# EAGLE library part AD849 (library LINEAR)
Analog Devices AD849X Precision Thermocouple Amplifiers with Cold Junction Compensation Changes: - 09/19/12 - Moved from Transceiver library. Standardized labels. Package on MM grid. -CN
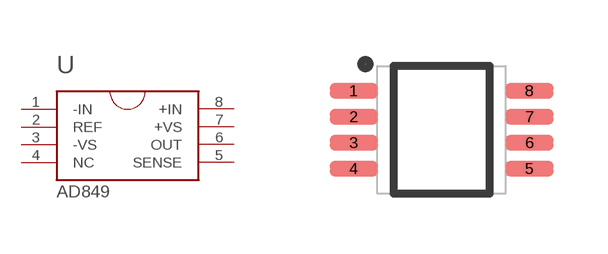
[diagram p1: symbol with the pads of MSOP08; footprint MSOP08]

Designator prefix U

## AD8494ARMZ, AD8494CRMZ, AD8495ARMZ (PARTNO: 01-100438-00), AD8495CRMZ, AD8496ARMZ, AD8496CRMZ, AD8497ARMZ, AD8497CRMZ  [MSOP08]
1  -IN  in
2  REF  in
3  -VS  pwr
4  NC  nc
5  SENSE  in
6  OUT  out
7  +VS  pwr
8  +IN  in

## Footprint MSOP08 (pad centres in mm)
8-Lead Mini Small Outline Package [MSOP] Changes: 10/23/15 - Update dimensions to reflect worst case AD8495 sizes. Round and narrow pads. CN 11/14/13 - Change tPlace to standardize look. Shorten pad length. CN
smd 1.2 x 0.4: 1 -2.2,0.975; 2 -2.2,0.325; 3 -2.2,-0.325; 4 -2.2,-0.975; 5 2.2,-0.975; 6 2.2,-0.325; 7 2.2,0.325; 8 2.2,0.975